# Altium footprint library GCT USB1135-15-9-L-B.PcbLib: 1 footprints
Each footprint in its own frame and in the unit in brackets; x right, y up, seen from the top. Pads: shape width x height; smd on the part's side, far side on the other; paste and mask are expansions set on the pad; w line width, h text height; cw(c..) or ccw(c..) is an arc to the next point about the centre after c.
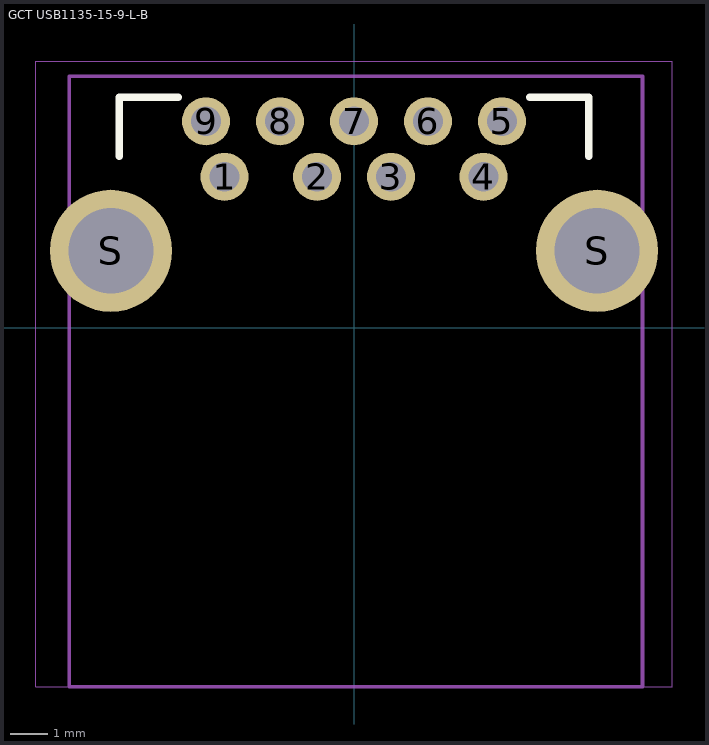
[diagram p0: the footprint, top view; thin cyan lines are the x and y axes]

## GCT USB1135-15-9-L-B [mm] "USB 3.0 A Receptacle Right Angle"
height 4.5
pads (11):
  round 1.3 hole 0.8: 1(-3.5,4.08) 2(-1,4.08) 3(1,4.08) 4(3.5,4.08) 5(4,5.58) 6(2,5.58) 7(0,5.58) 8(-2,5.58) 9(-4,5.58)
  round 3.3 hole 2.3: S(-6.57,2.08) S(6.57,2.08)
Top Overlay:
  lines w0.2: -6.346,4.63 -6.346,6.23 -4.746,6.23 ; 4.746,6.23 6.346,6.23 6.346,4.63
Top Assembly:
  lines w0.1: -7.7,-9.7 7.8,-9.7 7.8,6.8 -7.7,6.8 -7.7,-9.7
Top Courtyard:
  lines w0.02: -8.6,-9.7 8.6,-9.7 8.6,7.2 -8.6,7.2 -8.6,-9.7
  text "PCB EDGE" at -2.251,-10.42 h1
Top Designator:
  text ".Designator" at -7.498,-0.5 h1.5
3D body "USB1135-15-P-L-B.stp": height 7.56, standoff -3.84, extent -7.736,-9.7 7.735,6.8